# EAGLE library part SOFT_DIODE_SD-10 (library _mtvl.cells)
SD-10 Soft Diode © Designed by Kirill V.Trepakov trepakovk@gmail.com
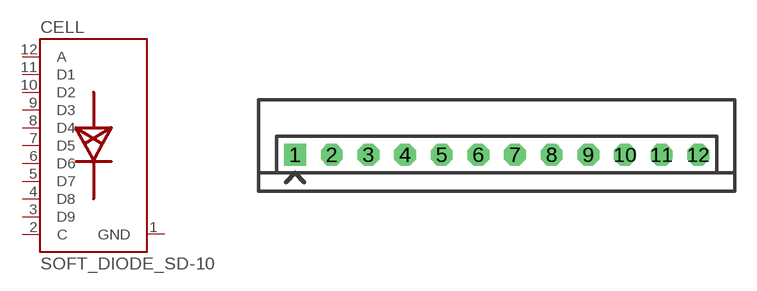
[diagram p0: symbol with the pads of SIP-12-H; footprint SIP-12-H]

Designator prefix CELL

## SOFT_DIODE_SD-10  [SIP-12-H]
1  GND
2  C
3  D9
4  D8
5  D7
6  D6
7  D5
8  D4
9  D3
10  D2
11  D1
12  A

## Footprint SIP-12-H (pad centres in mm)
drill 1 square: 1 -13.97,0
drill 1 octagon: 2 -11.43,0; 3 -8.89,0; 4 -6.35,0; 5 -3.81,0; 6 -1.27,0; 7 1.27,0; 8 3.81,0; 9 6.35,0; 10 8.89,0; 11 11.43,0; 12 13.97,0